# EAGLE library part 750342985 (library WE-FLYTI)
WE-FLYTI Flyback Transformers Characteristics Low leakage inductance Multiple package sizes Wide range input voltages Different output voltages available Isolation voltage: up to 3000VAC Lead free and RoHS compliant Operating temp: -40°C to 125°C Applications Industrial and medical power supplies Auxiliary power supplies Home automation Isolated DC/DC power supplies <https://www.we-online.com/components/media/o795300v209%20FAMILY-MID-FLYTI.jpg> Details see: www.we-online.com/en/components/products/WE-FLYTI <www.we-online.com/catalog/WE-FLYTI/?utm_source=eagle_model&utm_medium=description_link&utm_campaign=eisos_eagle> Created by Ella Wu 2024-07-03 2024 (C) Wurth Elektronik
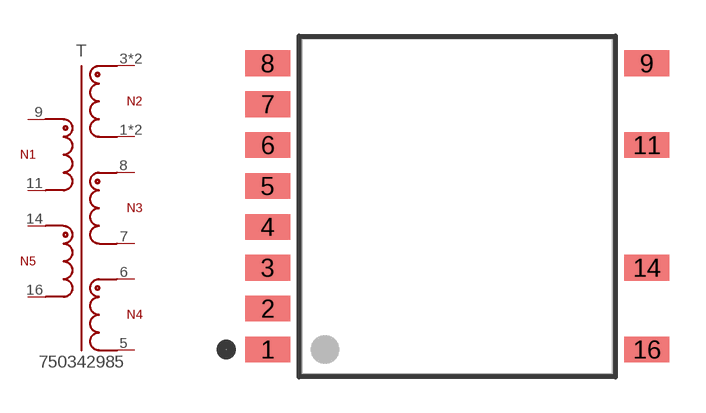
[diagram p4: symbol with the pads of WE-FLYTI_EP13_4482; footprint WE-FLYTI_EP13_4482]

Designator prefix T

## 750342985 (DATASHEET-URL: https://www.we-online.com/redexpert/spec/750342985?ae; IOUT1: 500mA; IOUT2: 100mA; IOUT3: 100mA; ISAT: 2.6A; L: 30uH; LS: 600nH; MOUNT: SMT; N: 7.3:4:1:1:4; PART-NUMBER: 750342985; SIZE: EP13; VALUE: 750342985; VAUX: 24V; VIN: 15 - 36 V (DC); VOUT1: 24V; VOUT2: 6V; VOUT3: 6V; VT: 1500V(AC))  [WE-FLYTI_EP13_4482]
1  1+2  pas
2  1+2  pas
3  3+4  pas
4  3+4  pas
5  5  pas
6  6  pas
7  7  pas
8  8  pas
9  9  pas
11  11  pas
14  14  pas
16  16  pas

## Footprint WE-FLYTI_EP13_4482 (pad centres in mm)
WE-FLYTI Flyback Transformers Size: EP13,SMT,12pins Bobbin: 070-4482
smd 1.88 x 1.07: 1 -7.885,-5.95; 2 -7.885,-4.25; 3 -7.885,-2.55; 4 -7.885,-0.85; 5 -7.885,0.85; 6 -7.885,2.55; 7 -7.885,4.25; 8 -7.885,5.95; 9 7.885,5.95; 11 7.885,2.55; 14 7.885,-2.55; 16 7.885,-5.95